# Altium schematic symbol library SamacSys.SchLib: 24 symbols
Pins are listed as number, name and electrical type; pins without a type are passive.

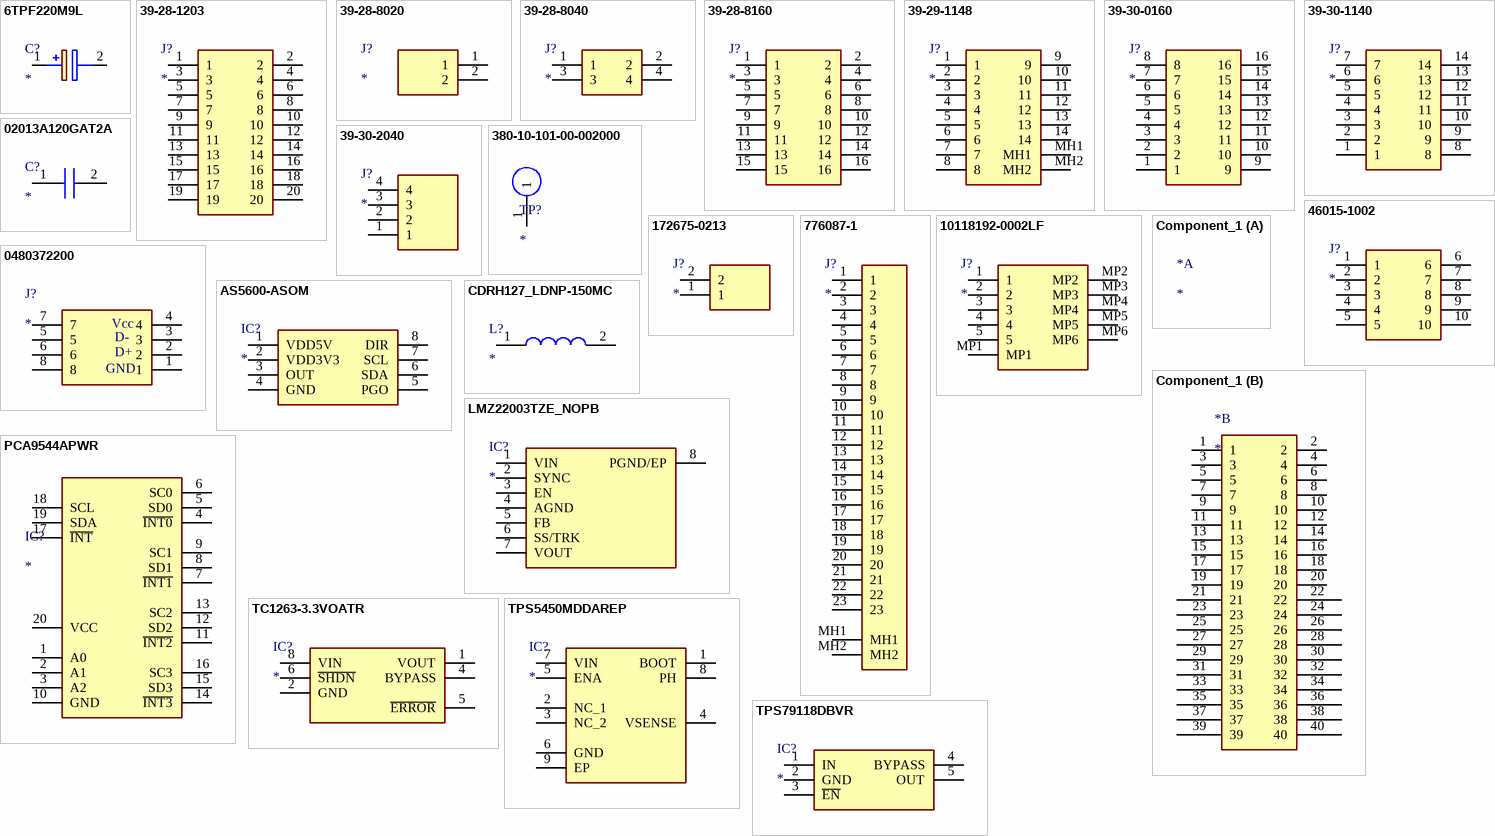
[diagram p0: symbols 6TPF220M9L to TPS79118DBVR]

## 6TPF220M9L
designator C?
Capacitor Polarised; Manufacturer_Name: Panasonic; Manufacturer_Part_Number: 6TPF220M9L; Datasheet Link: http://industrial.panasonic.com/cdbs/www-data/pdf/AAA8000/AAA8000C38.pdf
footprint POSCAP_D12_D15_D15E_D2E_D2_D3L_D4
pins: 1 +, 2 -

## 39-28-1203
designator J?
Connector; Manufacturer_Name: Molex; Datasheet Link: https://datasheet.datasheetarchive.com/originals/distributors/Datasheets-20/DSA-391120.pdf; Height: 13.1mm; Manufacturer_Part_Number: 39-28-1203; Mouser Part Number: 538-39-28-1203; Mouser Price/Stock: https://www.mouser.co.uk/ProductDetail/Molex/39-28-1203?qs=4XSMV6Twtb2DRME9sVHqvA%3D%3D
footprint SHDR20W125P550X420_2X10_4320X960X1310P
pins: 1, 2, 3, 4, 5, 6, 7, 8, 9, 10, 11, 12, 13, 14, 15, 16, 17, 18, 19, 20

## 39-28-8020
designator J?
Connector; Manufacturer_Name: Molex; Datasheet Link: http://www.molex.com/molex/products/datasheet.jsp?part=active/0039288020_PCB_HEADERS.xml; Height: 13.1mm; Manufacturer_Part_Number: 39-28-8020; Mouser Part Number: 538-39-28-8020; Mouser Price/Stock: https://www.mouser.co.uk/ProductDetail/Molex/39-28-8020?qs=ZZBj1wiNDbnzWLcHr%2Fqwqw%3D%3D
footprint SHDR2W125P550X420_2X1_540X960X1310P
pins: 1, 2

## 39-28-8040
designator J?
Connector; Manufacturer_Name: Molex; Datasheet Link: https://www.molex.com/webdocs/datasheets/pdf/en-us/0039288040_PCB_HEADERS.pdf; Height: 13.1mm; Manufacturer_Part_Number: 39-28-8040; Mouser Part Number: 538-39-28-8040; Mouser Price/Stock: https://www.mouser.co.uk/ProductDetail/Molex/39-28-8040?qs=SeTnVz%252B%252BFGDDzw7HSzN2Lw%3D%3D; Arrow Part Number: 39-28-8040; Arrow Price/Stock: https://www.arrow.com/en/products/39-28-8040/molex
footprint RHDR4W125P550X420_2X2_960X960X1310P
pins: 1, 2, 3, 4

## 39-28-8160
designator J?
Connector; Manufacturer_Name: Molex; Datasheet Link: https://www.molex.com/pdm_docs/sd/039288160_sd.pdf; Height: 13.1mm; Manufacturer_Part_Number: 39-28-8160; Mouser Part Number: 538-39-28-8160; Mouser Price/Stock: https://www.mouser.co.uk/ProductDetail/Molex/39-28-8160?qs=MGlPTwjtJ4anZPEwcpkEFQ%3D%3D
footprint SHDR16W125P550X420_2X8_3480X960X1310P
pins: 1, 2, 3, 4, 5, 6, 7, 8, 9, 10, 11, 12, 13, 14, 15, 16

## 39-29-1148
designator J?
Connector; Manufacturer_Name: Molex; Datasheet Link: https://www.molex.com/pdm_docs/sd/039291148_sd.pdf; Height: 10.3mm; Manufacturer_Part_Number: 39-29-1148; Mouser Part Number: 538-39-29-1148; Mouser Price/Stock: https://www.mouser.co.uk/ProductDetail/Molex/39-29-1148?qs=jsoPY5EnoNu%2F2ReUae1y5w%3D%3D
footprint 39291148
pins: 1, 2, 3, 4, 5, 6, 7, 8, 9, 10, 11, 12, 13, 14, MH1, MH2

## 39-30-0160
designator J?
Connector; Manufacturer_Name: Molex; Datasheet Link: https://www.molex.com/pdm_docs/sd/039300160_sd.pdf; Height: 9mm; Manufacturer_Part_Number: 39-30-0160; Mouser Part Number: 538-39-30-0160; Mouser Price/Stock: https://www.mouser.co.uk/ProductDetail/Molex/39-30-0160?qs=KHty%2FoMxDPnJHzmu54XA5A%3D%3D
footprint 39301160
pins: 1, 2, 3, 4, 5, 6, 7, 8, 9, 10, 11, 12, 13, 14, 15, 16

## 39-30-1140
designator J?
Connector; Manufacturer_Name: Molex; Datasheet Link: https://www.molex.com/pdm_docs/sd/039301140_sd.pdf; Height: 11.25mm; Manufacturer_Part_Number: 39-30-1140; Mouser Part Number: 538-39-30-1140; Mouser Price/Stock: https://www.mouser.co.uk/ProductDetail/Molex/39-30-1140?qs=ZZBj1wiNDbmCkxw7hxL8nQ%3D%3D
footprint 39301142
pins: 1, 2, 3, 4, 5, 6, 7, 8, 9, 10, 11, 12, 13, 14

## 39-30-2040
designator J?
Connector; Manufacturer_Name: Molex; Datasheet Link: https://www.mouser.com/datasheet/2/276/0039302040_PCB_HEADERS-160099.pdf; Height: 13.18mm; Manufacturer_Part_Number: 39-30-2040; Mouser Part Number: 538-39-30-2040; Mouser Price/Stock: https://www.mouser.co.uk/ProductDetail/Molex/39-30-2040?qs=cm0cgiBciNb%252Bk5q295QaGg%3D%3D
footprint 39302040
pins: 1, 2, 3, 4

## 380-10-101-00-002000
designator TP?
Connector; Manufacturer_Name: Mill-Max; Manufacturer_Part_Number: 380-10-101-00-002000; Datasheet Link: https://datasheet.datasheetarchive.com/originals/distributors/DKDS-31/604668.pdf; Height: 4.7mm; Mouser Part Number: 575-3801010100002000; Mouser Price/Stock: https://www.mouser.com/Search/Refine.aspx?Keyword=575-3801010100002000; Arrow Part Number: 380-10-101-00-002000; Arrow Price/Stock: https://www.arrow.com/en/products/380-10-101-00-002000/mill-max
footprint HDRV1W51P0X254_1X1_254X254X470P
pins: 1

## 02013A120GAT2A
designator C?
Capacitor; Manufacturer_Name: AVX; Manufacturer_Part_Number: 02013A120GAT2A; Datasheet Link: http://www.mouser.com/catalog/supplier/library/pdf/AVXSurfaceMountCeramic.pdf; Height: 0.33mm; Mouser Part Number: 581-02013A120GAT2A; Mouser Price/Stock: https://www.mouser.com/Search/Refine.aspx?Keyword=581-02013A120GAT2A; Arrow Part Number: 02013A120GAT2A; Arrow Price/Stock: https://www.arrow.com/en/products/02013a120gat2a/avx
footprint CAPC0603X33N
pins: 1, 2

## 46015-1002
designator J?
Connector; Manufacturer_Name: Molex; Manufacturer_Part_Number: 46015-1002; Datasheet Link: https://www.molex.com/pdm_docs/sd/460151002_sd.pdf; Height: 13.3mm; Mouser Part Number: 538-46015-1002; Mouser Price/Stock: https://www.mouser.co.uk/ProductDetail/Molex/46015-1002?qs=vuaaJtqKbMZiZUhECIrnag%3D%3D
footprint 460151002
pins: 1, 2, 3, 4, 5, 6, 7, 8, 9, 10

## 172675-0213
designator J?
Connector; Manufacturer_Name: Molex; Manufacturer_Part_Number: 172675-0213; Datasheet Link: https://componentsearchengine.com/Datasheets/1/172675-0213.pdf; Height: 12.8mm; Mouser Part Number: 538-172675-0213; Mouser Price/Stock: https://www.mouser.co.uk/ProductDetail/Molex/172675-0213?qs=c8NFF48pVsBqRLFxNEkKVw%3D%3D
footprint 1726750213
pins: 1, 2

## 776087-1
designator J?
Connector; Manufacturer_Name: TE Connectivity; Manufacturer_Part_Number: 776087-1; Datasheet Link: https://componentsearchengine.com/Datasheets/1/776087-1.pdf; Height: 32.1mm; Mouser Part Number: 571-776087-1; Mouser Price/Stock: https://www.mouser.co.uk/ProductDetail/TE-Connectivity/776087-1?qs=qXO2HHLAcoIjggUTPuCD9w%3D%3D; Arrow Part Number: 776087-1; Arrow Price/Stock: https://www.arrow.com/en/products/776087-1/te-connectivity?region=europe
footprint 7760871
pins: 1, 2, 3, 4, 5, 6, 7, 8, 9, 10, 11, 12, 13, 14, 15, 16, 17, 18, 19, 20, 21, 22, 23, MH1, MH2

## 10118192-0002LF
designator J?
Connector; Manufacturer_Name: Amphenol; Manufacturer_Part_Number: 10118192-0002LF; Datasheet Link: https://componentsearchengine.com/Datasheets/1/10118192-0002LF.pdf; Height: 3.05mm; Mouser Part Number: 649-10118192-0002LF; Mouser Price/Stock: https://www.mouser.co.uk/ProductDetail/Amphenol-FCI/10118192-0002LF?qs=KVgMXE4aH4nIkuWlMxQzog%3D%3D; Arrow Part Number: 10118192-0002LF; Arrow Price/Stock: https://www.arrow.com/en/products/10118192-0002lf/amphenol-fci?region=nac
footprint 101181920002LF
pins: 1, 2, 3, 4, 5, MP1, MP2, MP3, MP4, MP5, MP6

## 0480372200
designator J?
Connector; Manufacturer_Name: Molex; Manufacturer_Part_Number: 0480372200; Datasheet Link: https://www.molex.com/pdm_docs/sd/480372200_sd.pdf; Height: 4mm; Mouser Part Number: N/A; Mouser Price/Stock: https://www.mouser.co.uk/ProductDetail/Molex/0480372200?qs=PBcRNPEHKspH5weIJRN3iw%3D%3D; Arrow Part Number: 0480372200; Arrow Price/Stock: https://www.arrow.com/en/products/0480372200/molex
footprint 0480372200
pins: 1, 2, 3, 4, 5, 6, 7, 8
text: Vcc; D-; D+; GND

## AS5600-ASOM
designator IC?
Integrated Circuit; Manufacturer_Name: ams; Manufacturer_Part_Number: AS5600-ASOM; Datasheet Link: https://datasheet.datasheetarchive.com/originals/distributors/DKDS-11/214624.pdf; Height: 1.75mm; Mouser Part Number: 985-AS5600-ASOM; Mouser Price/Stock: https://www.mouser.co.uk/ProductDetail/ams/AS5600-ASOM?qs=KTMMzrZdriG6aU1h9lJCUQ%3D%3D; Arrow Part Number: AS5600-ASOM; Arrow Price/Stock: https://www.arrow.com/en/products/as5600-asom/ams-ag?region=nac
footprint SOIC127P600X175-8N
pins: 1 VDD5V, 2 VDD3V3, 3 OUT, 4 GND, 5 PGO, 6 SDA, 7 SCL, 8 DIR

## CDRH127_LDNP-150MC
designator L?
Inductor; Manufacturer_Name: Sumida; Manufacturer_Part_Number: CDRH127/LDNP-150MC; Datasheet Link: https://componentsearchengine.com/Datasheets/1/CDRH127_LDNP-150MC.pdf; Height: 8mm; Mouser Part Number: 851-CDRH127LDNP150MC; Mouser Price/Stock: https://www.mouser.co.uk/ProductDetail/Sumida/CDRH127-LDNP-150MC?qs=UC6tolJH7OiTViEpne7nQQ%3D%3D; Arrow Part Number: CDRH127/LDNP-150MC; Arrow Price/Stock: https://www.arrow.com/en/products/cdrh127ldnp-150mc/sumida?region=nac
footprint INDPM120120X800N
pins: 1, 2

## Component_1
designator *
part B pins: 1, 2, 3, 4, 5, 6, 7, 8, 9, 10, 11, 12, 13, 14, 15, 16, 17, 18, 19, 20, 21, 22, 23, 24, 25, 26, 27, 28, 29, 30, 31, 32, 33, 34, 35, 36, 37, 38, 39, 40

## LMZ22003TZE_NOPB
designator IC?
Integrated Circuit; Manufacturer_Name: Texas Instruments; Manufacturer_Part_Number: LMZ22003TZE/NOPB; Datasheet Link: http://www.ti.com/general/docs/suppproductinfo.tsp?distId=10&gotoUrl=http%3A%2F%2Fwww.ti.com%2Flit%2Fgpn%2Flmz22003; Height: 4.67mm; Mouser Part Number: 926-LMZ22003TZE/NOPB; Mouser Price/Stock: https://www.mouser.co.uk/ProductDetail/Texas-Instruments/LMZ22003TZE-NOPB?qs=OYMYEaN9QmCFGD0Y8d2tlQ%3D%3D; Arrow Part Number: LMZ22003TZE/NOPB; Arrow Price/Stock: https://www.arrow.com/en/products/lmz22003tzenopb/texas-instruments
footprint LMZ22003TZENOPB
pins: 1 VIN, 2 SYNC, 3 EN, 4 AGND, 5 FB, 6 SS/TRK, 7 VOUT, 8 PGND/EP

## PCA9544APWR
designator IC?
Integrated Circuit; Manufacturer_Name: Texas Instruments; Manufacturer_Part_Number: PCA9544APWR; Datasheet Link: http://www.ti.com/lit/gpn/pca9544a; Height: 1.2mm; Mouser Part Number: 595-PCA9544APWR; Mouser Price/Stock: https://www.mouser.co.uk/ProductDetail/Texas-Instruments/PCA9544APWR?qs=wgAEGBTxy7mScfqW4P%2FhLg%3D%3D; Arrow Part Number: PCA9544APWR; Arrow Price/Stock: https://www.arrow.com/en/products/pca9544apwr/texas-instruments
footprint SOP65P640X120-20N
pins: 1 A0, 2 A1, 3 A2, 4 ~{INT0}, 5 SD0, 6 SC0, 7 ~{INT1}, 8 SD1, 9 SC1, 10 GND, 11 ~{INT2}, 12 SD2, 13 SC2, 14 ~{INT3}, 15 SD3, 16 SC3, 17 ~{INT}, 18 SCL, 19 SDA, 20 VCC

## TC1263-3.3VOATR
designator IC?
Integrated Circuit; Manufacturer_Name: Microchip; Manufacturer_Part_Number: TC1263-3.3VOATR; Datasheet Link: http://ww1.microchip.com/downloads/en/DeviceDoc/21374D.pdf; Height: 1.75mm; Mouser Part Number: 579-TC1263-3.3VOATR; Mouser Price/Stock: https://www.mouser.co.uk/ProductDetail/Microchip-Technology/TC1263-33VOATR?qs=JKWmWPM4binFIJC0VNJYCQ%3D%3D; Arrow Part Number: TC1263-3.3VOATR; Arrow Price/Stock: https://www.arrow.com/en/products/tc1263-3.3voatr/microchip-technology
footprint SOIC127P600X175-8N
pins: 1 VOUT, 2 GND, 4 BYPASS, 5 ~{ERROR}, 6 ~{SHDN}, 8 VIN

## TPS5450MDDAREP
designator IC?
Integrated Circuit; Manufacturer_Name: Texas Instruments; Manufacturer_Part_Number: TPS5450MDDAREP; Datasheet Link: http://www.ti.com/lit/gpn/tps5450-ep; Height: 1.7mm
footprint SOIC127P600X170-9N
pins: 1 BOOT, 2 NC_1, 3 NC_2, 4 VSENSE, 5 ENA, 6 GND, 7 VIN, 8 PH, 9 EP

## TPS79118DBVR
designator IC?
Integrated Circuit; Manufacturer_Name: Texas Instruments; Manufacturer_Part_Number: TPS79118DBVR; Datasheet Link: http://www.ti.com/lit/gpn/tps791; Height: 1.45mm; Mouser Part Number: 595-TPS79118DBVR; Mouser Price/Stock: https://www.mouser.co.uk/ProductDetail/Texas-Instruments/TPS79118DBVR/?qs=5WY7Uqh921zBXwEUn9N4JA%3D%3D; Arrow Part Number: TPS79118DBVR; Arrow Price/Stock: https://www.arrow.com/en/products/tps79118dbvr/texas-instruments
footprint SOT95P280X145-5N
pins: 1 IN, 2 GND, 3 ~{EN}, 4 BYPASS, 5 OUT